# Altium footprint library MOLEX-PB-2-V.PcbLib: 1 footprints
Each footprint in its own frame and in the unit in brackets; x right, y up, seen from the top. Pads: shape width x height; smd on the part's side, far side on the other; paste and mask are expansions set on the pad; w line width, h text height; cw(c..) or ccw(c..) is an arc to the next point about the centre after c.
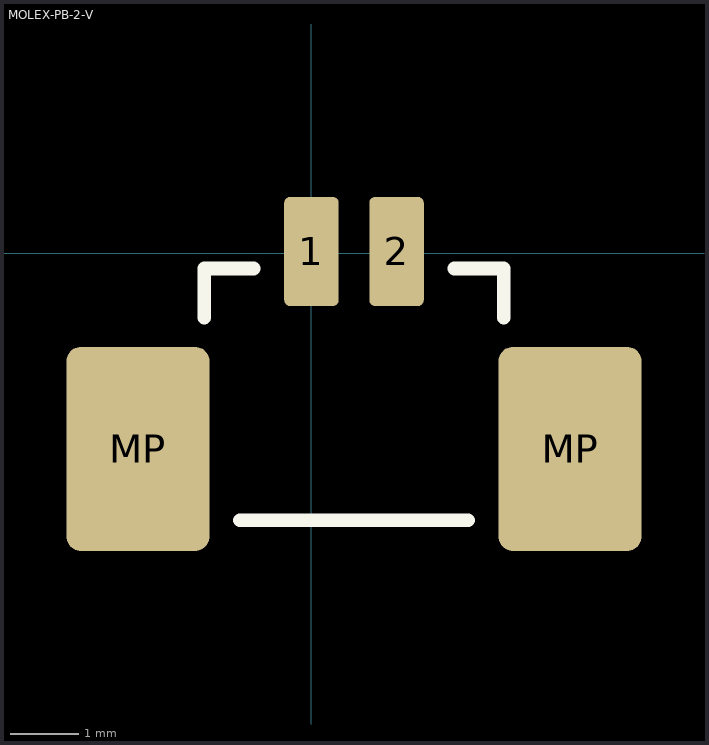
[diagram p0: the footprint, top view; thin cyan lines are the x and y axes]

## MOLEX-PB-2-V [mm]
pads (4):
  rrect20% 0.8x1.6 smd: 1(0,0.025) 2(1.25,0.025)
  rrect20% 2.1x3 smd: MP(-2.55,-2.875) MP(3.8,-2.875)
Top Overlay:
  lines w0.2: -1.575,-0.95 -1.575,-0.225 -0.85,-0.225 ; -1.05,-3.925 2.3,-3.925 ; 2.1,-0.225 2.825,-0.225 2.825,-0.95
3D body "User Library-molex 53398.step": height 4.7, standoff 0, extent -3.19,-3.745 4.46,0.455